# Altium footprint library SOIC-W16 90-0107.PcbLib: 1 footprints
Each footprint in its own frame and in the unit in brackets; x right, y up, seen from the top. Pads: shape width x height; smd on the part's side, far side on the other; paste and mask are expansions set on the pad; w line width, h text height; cw(c..) or ccw(c..) is an arc to the next point about the centre after c.
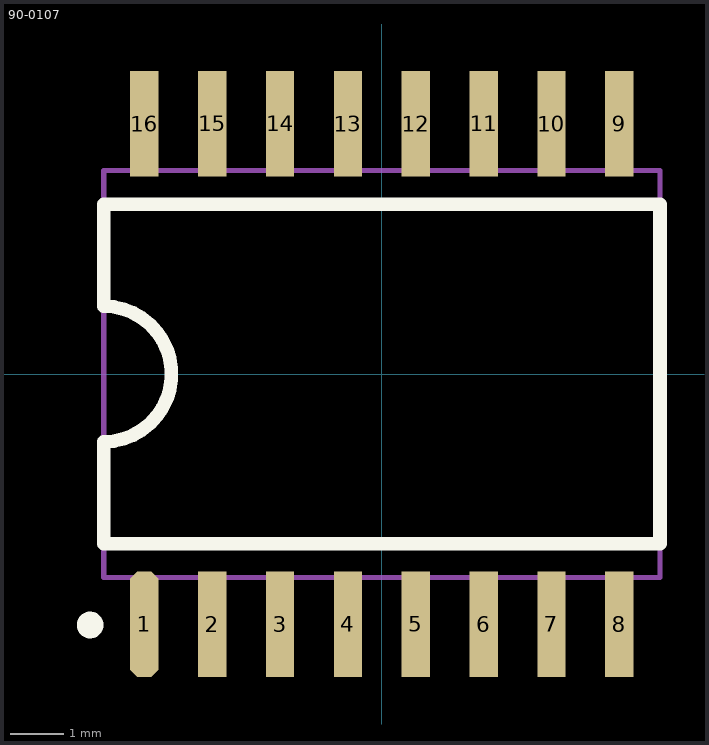
[diagram p0: the footprint, top view; thin cyan lines are the x and y axes]

## 90-0107 [mm] "SOIC Wide 16"
pads (16):
  oct 0.53x1.98 smd: 1(-4.445,-4.685)
  rect 0.53x1.98 smd: 2(-3.175,-4.685) 3(-1.905,-4.685) 4(-0.635,-4.685) 5(0.635,-4.685) 6(1.905,-4.685) 7(3.175,-4.685) 8(4.445,-4.685) 9(4.445,4.685) 10(3.175,4.685) 11(1.905,4.685) 12(0.635,4.685) 13(-0.635,4.685) 14(-1.905,4.685) 15(-3.175,4.685) 16(-4.445,4.685)
Top Overlay:
  circle w0.25: c-5.461,-4.699 r0.125
  lines w0.254: -5.207,-3.175 -5.207,-1.27 ccw(c-5.207,0) -5.207,1.27 -5.207,3.175 5.207,3.175 5.207,-3.175 -5.207,-3.175
Mechanical 13:
  lines w0.1: -5.207,-3.81 5.207,-3.81 5.207,3.81 -5.207,3.81 -5.207,-3.81
3D body: height 0.93, standoff 0.12, extent -5.207,-3.81 5.207,3.81